# Altium schematic symbol library radiotestconnector.SchLib: 1 symbol
Pins are listed as number, name and electrical type; pins without a type are passive.

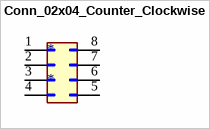
[diagram p0: symbol Conn_02x04_Counter_Clockwise]

## Conn_02x04_Counter_Clockwise
designator *
pins: 1 Pin_1, 2 Pin_2, 3 Pin_3, 4 Pin_4, 5 Pin_5, 6 Pin_6, 7 Pin_7, 8 Pin_8